# Altium footprint library IC REG LINEAR 5V 800MA SOT223.PcbLib: 1 footprints
Each footprint in its own frame and in the unit in brackets; x right, y up, seen from the top. Pads: shape width x height; smd on the part's side, far side on the other; paste and mask are expansions set on the pad; w line width, h text height; cw(c..) or ccw(c..) is an arc to the next point about the centre after c.
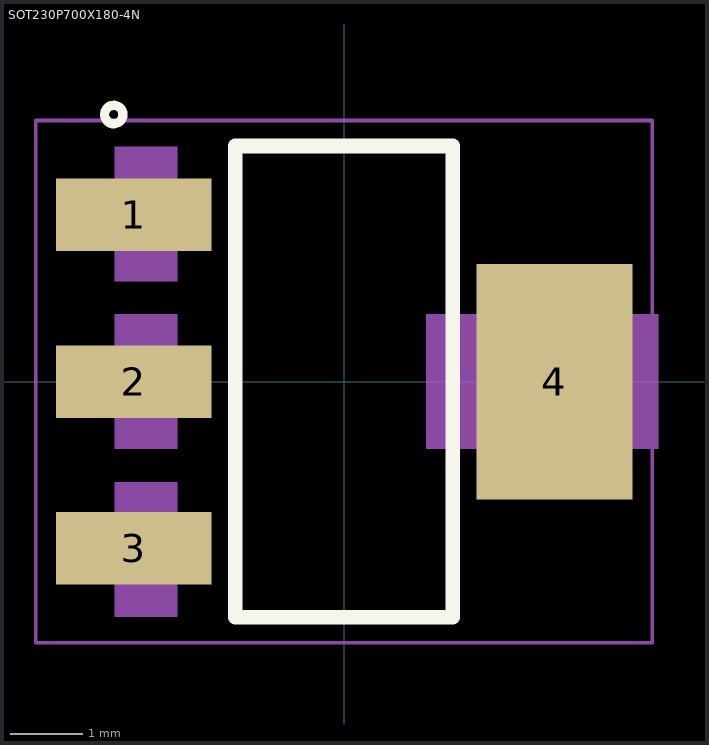
[diagram p0: the footprint, top view; thin cyan lines are the x and y axes]

## SOT230P700X180-4N [mm]
pads (4):
  rect 2.15x1 smd: 1(-2.9,2.3) 2(-2.9,0) 3(-2.9,-2.3)
  rect 2.15x3.25 smd: 4(2.9,0)
Top Overlay:
  circle w0.127: c-3.175,3.683 r0.127
  lines w0.203: -1.5,-3.25 1.5,-3.25 1.5,3.25 -1.5,3.25 -1.5,-3.25
Mechanical 13:
  region: 4.331,-0.928 1.131,-0.928 1.131,0.927 4.331,0.927
  region: -2.299,-0.927 -3.163,-0.927 -3.163,0.927 -2.299,0.927
  region: -2.299,1.385 -3.165,1.385 -3.165,3.238 -2.299,3.238
  region: -2.299,-3.239 -3.163,-3.239 -3.163,-1.384 -2.299,-1.384
  region: 4.331,-0.928 1.131,-0.928 1.131,0.927 4.331,0.927
  region: -2.299,-0.927 -3.162,-0.927 -3.162,0.927 -2.299,0.927
  region: -2.299,1.385 -3.163,1.385 -3.163,3.238 -2.299,3.238
  region: -2.299,-3.239 -3.163,-3.239 -3.163,-1.384 -2.299,-1.384
Mechanical 15:
  lines w0.05: -4.25,-3.6 4.25,-3.6 4.25,3.6 -4.25,3.6 -4.25,-3.6
3D body "step_temp.STEP": height 1.8, standoff 0, extent -3.25,-3.499 3.25,3.499